# EAGLE library part ATECC608A-SSHDA-B (library SamacSys_Parts)
Cryptoathentication ECC608A SOIC Source: Datasheet <http://ww1.microchip.com/downloads/en/DeviceDoc/40001977A.pdf>
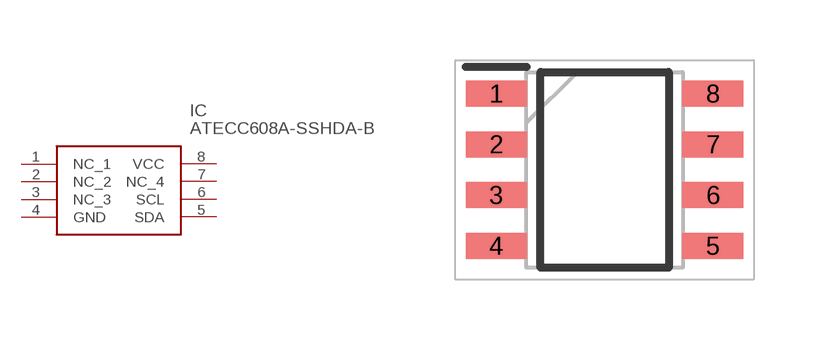
[diagram p248: symbol with the pads of SOIC127P600X175-8N; footprint SOIC127P600X175-8N]

Designator prefix IC

## ATECC608A-SSHDA-B (ARROW_PART_NUMBER: ATECC608A-SSHDA-B; ARROW_PRICE-STOCK: https://www.arrow.com/en/products/atecc608a-sshda-b/microchip-technology; DESCRIPTION: Cryptoathentication ECC608A SOIC; HEIGHT: 1.75mm; MANUFACTURER_NAME: Microchip; MANUFACTURER_PART_NUMBER: ATECC608A-SSHDA-B; MOUSER_PART_NUMBER: 556-ATECC608ASSHDAB; MOUSER_PRICE-STOCK: https://www.mouser.co.uk/ProductDetail/Microchip-Technology/ATECC608A-SSHDA-B?qs=wd5RIQLrsJj8ay8%2FHpTWlw%3D%3D)  [SOIC127P600X175-8N]
1  NC_1
2  NC_2
3  NC_3
4  GND
5  SDA
6  SCL
7  NC_4
8  VCC

## Footprint SOIC127P600X175-8N (pad centres in mm)
SO8N 8-lead plastic small outline, 150 mils body width
smd 1.525 x 0.65: 1 -2.712,1.905; 2 -2.712,0.635; 3 -2.712,-0.635; 4 -2.712,-1.905; 5 2.712,-1.905; 6 2.712,-0.635; 7 2.712,0.635; 8 2.712,1.905